# Altium schematic symbol library STM32F030C6T6TR.SchLib: 1 symbol
Pins are listed as number, name and electrical type; pins without a type are passive.

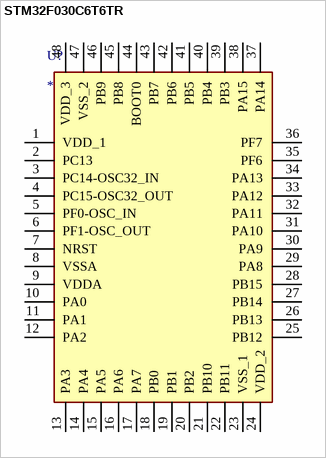
[diagram p0: symbol STM32F030C6T6TR]

## STM32F030C6T6TR
designator U?
datasheet: https://www.mouser.es/datasheet/2/389/dm00088500-1797910.pdf; link: https://www.mouser.es/ProductDetail/STMicroelectronics/STM32F030C6T6TR?qs=%2Fha2pyFadujR%2FWSfahMbfq1WXNlEwlQCksMgAwgk3epMIIHTpmp46Q%3D%3D
footprint STM32F030C6T6TR
pins: 1 VDD_1, 2 PC13, 3 PC14-OSC32_IN, 4 PC15-OSC32_OUT, 5 PF0-OSC_IN, 6 PF1-OSC_OUT, 7 NRST, 8 VSSA, 9 VDDA, 10 PA0, 11 PA1, 12 PA2, 13 PA3, 14 PA4, 15 PA5, 16 PA6, 17 PA7, 18 PB0, 19 PB1, 20 PB2, 21 PB10, 22 PB11, 23 VSS_1, 24 VDD_2, 25 PB12, 26 PB13, 27 PB14, 28 PB15, 29 PA8, 30 PA9, 31 PA10, 32 PA11, 33 PA12, 34 PA13, 35 PF6, 36 PF7, 37 PA14, 38 PA15, 39 PB3, 40 PB4, 41 PB5, 42 PB6, 43 PB7, 44 BOOT0, 45 PB8, 46 PB9, 47 VSS_2, 48 VDD_3